# Altium integrated library M138_MODEM.IntLib: 1 symbol
Pins are listed as number, name and electrical type; pins without a type are passive.

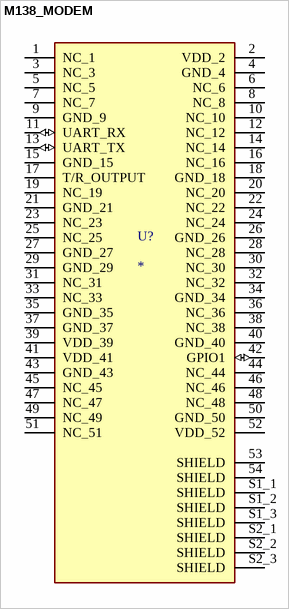
[diagram p0: symbol M138_MODEM]

## M138_MODEM
designator U?
Swarm M138 Modem; MF: Swarm; Check_prices: https://www.snapeda.com/parts/M138%20Modem/Swarm/view-part/?ref=eda; Value: *; Package: Package; Price: None; Availability: Not in stock; MP: M138 Modem; SnapEDA_Link: https://www.snapeda.com/parts/M138%20Modem/Swarm/view-part/?ref=snap
footprint XCVR_M138_MODEM
pins: 1 NC_1, 2 VDD_2 (power), 3 NC_3, 4 GND_4 (power), 5 NC_5, 6 NC_6, 7 NC_7, 8 NC_8, 9 GND_9 (power), 10 NC_10, 11 UART_RX (io), 12 NC_12, 13 UART_TX (io), 14 NC_14, 15 GND_15 (power), 16 NC_16, 17 T/R_OUTPUT, 18 GND_18 (power), 19 NC_19, 20 NC_20, 21 GND_21 (power), 22 NC_22, 23 NC_23, 24 NC_24, 25 NC_25, 26 GND_26 (power), 27 GND_27 (power), 28 NC_28, 29 GND_29 (power), 30 NC_30, 31 NC_31, 32 NC_32, 33 NC_33, 34 GND_34 (power), 35 GND_35 (power), 36 NC_36, 37 GND_37 (power), 38 NC_38, 39 VDD_39 (power), 40 GND_40 (power), 41 VDD_41 (power), 42 GPIO1 (io), 43 GND_43 (power), 44 NC_44, 45 NC_45, 46 NC_46, 47 NC_47, 48 NC_48, 49 NC_49, 50 GND_50 (power), 51 NC_51, 52 VDD_52 (power), 53 SHIELD, 54 SHIELD, S1_1 SHIELD, S1_2 SHIELD, S1_3 SHIELD, S2_1 SHIELD, S2_2 SHIELD, S2_3 SHIELD